# Altium footprint library My.PcbLib: 39 footprints (part 2 of 3)
Each footprint in its own frame and in the unit in brackets; x right, y up, seen from the top. Pads: shape width x height; smd on the part's side, far side on the other; paste and mask are expansions set on the pad; w line width, h text height; cw(c..) or ccw(c..) is an arc to the next point about the centre after c.
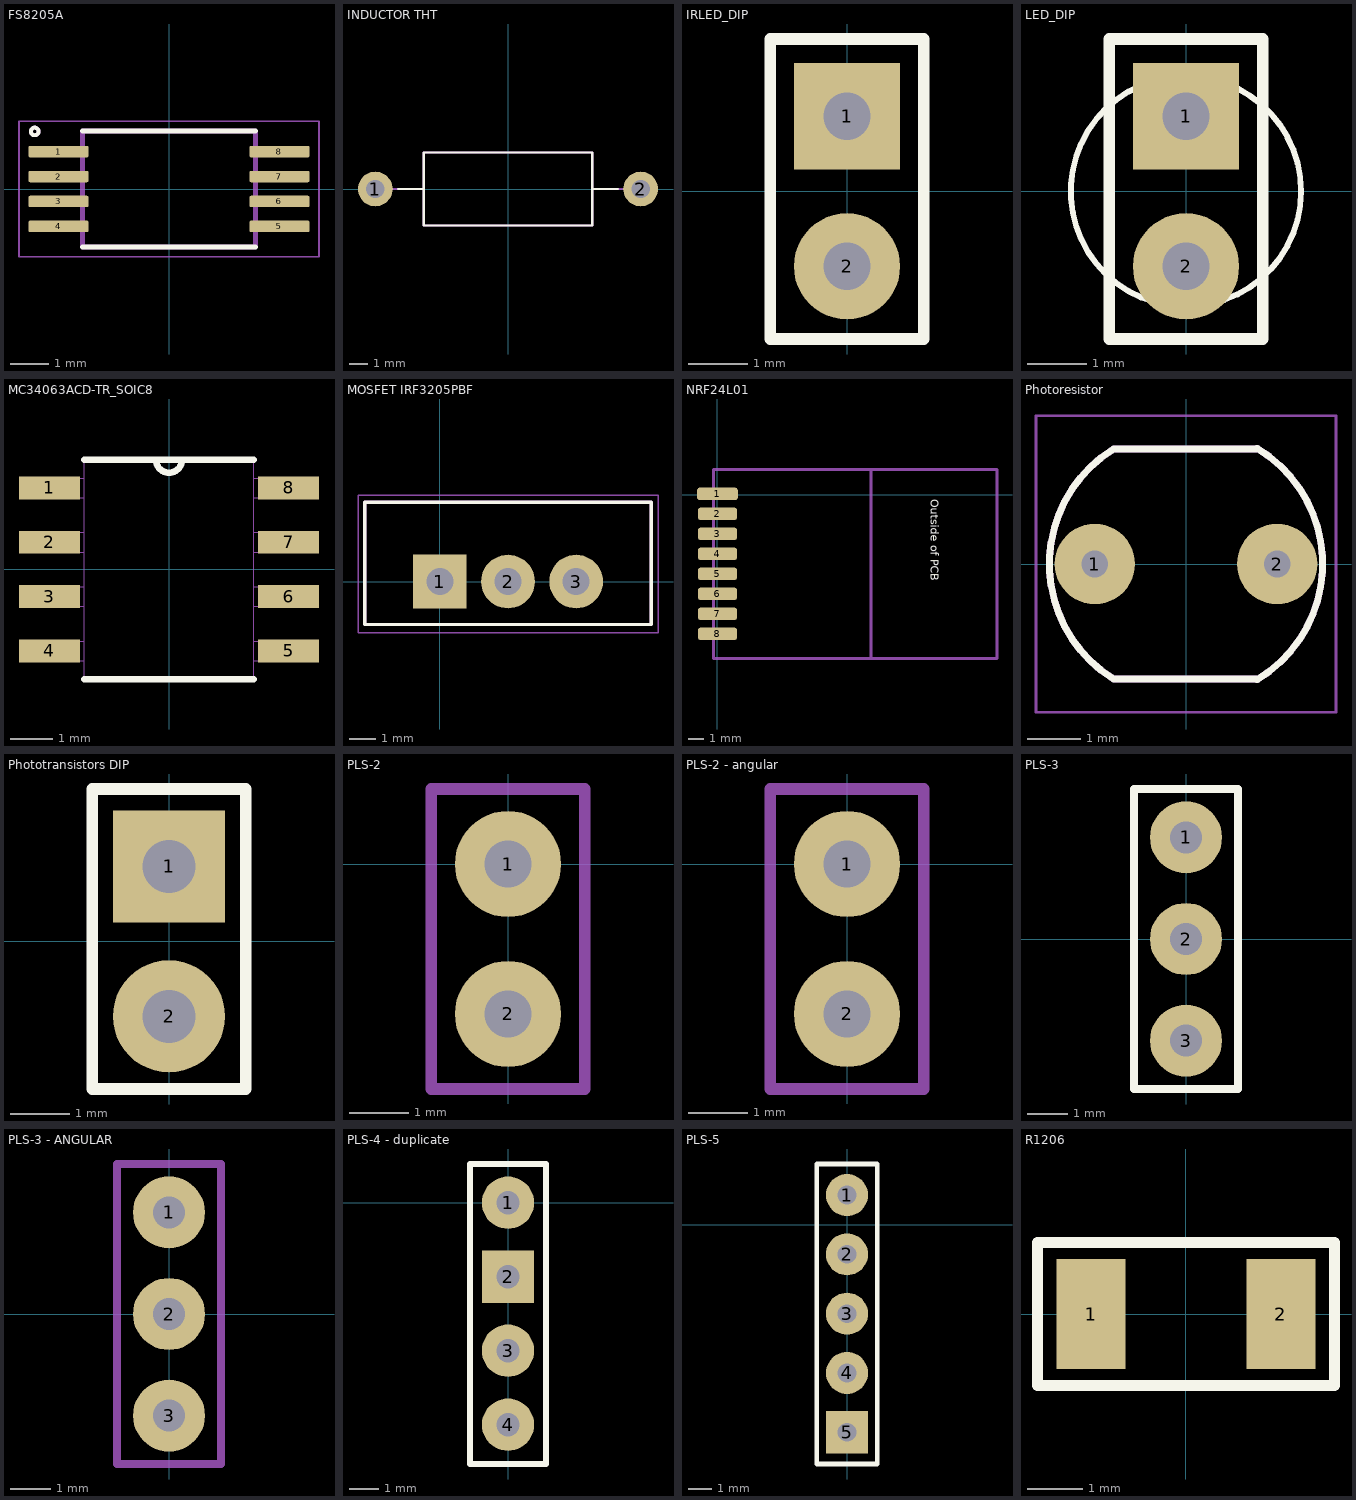
[diagram p1: the footprints below, top view; thin cyan lines are the x and y axes]

## FS8205A [mm]
height 1.2
pads (8):
  rrect25% 1.56x0.3 smd: 1(-2.88,0.975) 2(-2.88,0.325) 3(-2.88,-0.325) 4(-2.88,-0.975) 5(2.88,-0.975) 6(2.88,-0.325) 7(2.88,0.325) 8(2.88,0.975)
Top Overlay:
  circle w0.1: c-3.5,1.5 r0.1
  lines w0.127: -2.25,-1.515 2.25,-1.515 ; -2.25,1.515 2.25,1.515
Mechanical 13:
  circle w0.1: c-3.5,1.5 r0.1
  lines w0.127: -2.25,-1.515 -2.25,1.515 2.25,1.515 2.25,-1.515 -2.25,-1.515
Top Courtyard (Mech15):
  lines w0.05: -3.91,-1.765 -3.91,1.765 3.91,1.765 3.91,-1.765 -3.91,-1.765
3D body "step_temp.STEP": height 1.2, standoff 0, extent -3.2,-1.465 3.2,1.465

## INDUCTOR THT [mm]
height 4
pads (2):
  round 1.9 hole 1: 1(-7.25,0) 2(7.25,0)
Top Overlay:
  lines w0.127: -6.005,0 -4.6,0 ; 4.6,0 6.005,0 ; -4.6,-2 -4.6,2 4.6,2 4.6,-2 -4.6,-2
Mechanical 13:
  lines w0.127: -7,0 -4.6,0 ; 4.6,0 7,0 ; -4.6,-2 4.6,-2 4.6,2 -4.6,2 -4.6,-2
3D body "step_temp.STEP": height 6, standoff -19, extent -7.375,-1.95 7.425,2.05

## IRLED_DIP [mm]
pads (2):
  rect 1.8x1.8 hole 0.8: 1(0,1.27)
  round 1.8 hole 0.8: 2(0,-1.27)
Top Overlay:
  lines w0.2: -1.3,-2.5 -1.3,2.58 1.3,2.58 1.3,-2.5 -1.3,-2.5
3D body "PLS-2_(DS1021_CONNFLY).stp": height 8.7, standoff -3, extent -1.24,-2.54 1.3,2.54

## LED_DIP [mm]
pads (2):
  rect 1.8x1.8 hole 0.8: 1(0,1.27)
  round 1.8 hole 0.8: 2(0,-1.27)
Top Overlay:
  circle w0.1: c0,0 r1.95
  lines w0.2: -1.3,-2.5 1.3,-2.5 1.3,2.58 -1.3,2.58 -1.3,-2.5

## MC34063ACD-TR_SOIC8 [mil]
pads (8):
  rect 56x21 smd: 1(-110,75) 2(-110,25) 3(-110,-25) 4(-110,-75) 5(110,-75) 6(110,-25) 7(110,25) 8(110,75)
Top Overlay:
  lines w6: -78,-101 78,-101 ; -78,101 -12,101 ; 78,101 12,101 ; -12,101 ccw(c0,101) 12,101 ; -12,101 12,101
Mechanical 13:
  lines w0: -12,101 ccw(c0,101) 12,101 ; -12,101 -78,101 -78,-101 78,-101 78,101 12,101 ; -12,101 12,101 ; -124,-84 -78,-84 -78,-66 -124,-66 -124,-84 ; -124,-34 -78,-34 -78,-16 -124,-16 -124,-34 ; -124,16 -78,16 -78,34 -124,34 -124,16 ; -124,66 -78,66 -78,84 -124,84 -124,66 ; 78,-84 124,-84 124,-66 78,-66 78,-84 ; 78,-34 124,-34 124,-16 78,-16 78,-34 ; 78,16 124,16 124,34 78,34 78,16 ; 78,66 124,66 124,84 78,84 78,66
3D body "step_temp.STEP": height 68.9, standoff 0, extent -118.11,-96.46 118.11,96.46

## MOSFET IRF3205PBF [mm]
pads (3):
  rect 2x2 hole 1: 1(0,0)
  round 2 hole 1: 2(2.54,0) 3(5.08,0)
Top Overlay:
  lines w0.127: -2.8,-1.6 -2.8,2.325 -2.8,2.96 7.88,2.96 7.88,2.325 7.88,-1.6 -2.8,-1.6
Mechanical 13:
  lines w0.127: -2.8,-1.6 -2.8,2.325 -2.8,2.96 7.88,2.96 7.88,2.325 7.88,-1.6 -2.8,-1.6
Top Courtyard (Mech15):
  lines w0.05: -3.05,-1.9 -3.05,3.21 8.13,3.21 8.13,-1.9 -3.05,-1.9
3D body "step_temp.STEP": height 20.57, standoff -10.67, extent -2.54,-1.397 7.62,2.794

## NRF24L01 [mm]
pads (8):
  rrect50% 2.6x0.8 smd: 1(0,0.05)
  rrect50% 2.5x0.8 smd: 2(0,-1.22) 3(0,-2.49) 4(0,-3.76) 5(0,-5.03) 6(0,-6.3) 7(0,-7.57) 8(0,-8.84)
Top Overlay:
  text "Outside of PCB" at 13.55,-0.275 h0.5
Top Courtyard:
  lines w0.2: 9.75,-10.4 9.75,1.6 ; -0.25,-10.4 -0.25,1.6 17.75,1.6 17.75,-10.4 -0.25,-10.4
3D body "NRF24L01.stp": height 1.87, standoff -0.01, extent -0.25,-10.4 17.75,1.6

## Photoresistor [mm]
height 2.38
pads (2):
  round 1.5 hole 0.5: 1(-1.7,0) 2(1.7,0)
Top Overlay:
  lines w0.127: -1.364,-2.133 cw(c-0.031,0) -1.364,2.133 ; -1.345,-2.145 1.345,-2.145 ; -1.345,2.145 1.345,2.145 ; 1.326,-2.156 ccw(c0.031,0) 1.326,2.156
Mechanical 13:
  lines w0.127: -1.364,-2.133 cw(c-0.031,0) -1.364,2.133 ; -1.345,-2.145 1.345,-2.145 ; -1.345,2.145 1.345,2.145 ; 1.326,-2.156 ccw(c0.031,0) 1.326,2.156
Top Courtyard (Mech15):
  lines w0.05: -2.796,-2.766 2.796,-2.766 2.796,2.766 -2.796,2.766 -2.796,-2.766
3D body "step_temp.STEP": height 2.39, standoff -25.98, extent -2.54,-2.146 2.54,2.146

## Phototransistors DIP [mm]
height 7.3
pads (2):
  rect 1.9x1.9 hole 0.9: 1(0,1.27)
  round 1.9 hole 0.9: 2(0,-1.27)
Top Overlay:
  lines w0.2: -1.3,-2.5 1.3,-2.5 1.3,2.58 -1.3,2.58 -1.3,-2.5

## PLS-2 [mm] "Штыри однорядные 1x2 конт. шаг 2.54 мм, вертик. на плату"
pads (2):
  round 1.8 hole 0.8: 1(0,0) 2(0,-2.54)
Top Courtyard:
  lines w0.2: -1.3,-3.81 -1.3,1.27 1.3,1.27 1.3,-3.81 -1.3,-3.81
3D body "PLS-2_(DS1021_CONNFLY).stp": height 8.7, standoff -3, extent -1.24,-3.81 1.3,1.27

## PLS-2 - angular [mm] "Штыри однорядные 1x2 конт. шаг 2.54 мм, вертик. на плату"
pads (2):
  round 1.8 hole 0.8: 1(0,0) 2(0,-2.54)
Top Courtyard:
  lines w0.2: -1.3,-3.81 -1.3,1.27 1.3,1.27 1.3,-3.81 -1.3,-3.81
3D body "PLS-2RD_(DS1022_CONNFLY).stp": height 3.54, standoff -2, extent -0.32,-3.81 10.04,1.27

## PLS-3 [mm] "Штыри однорядные 1x4 конт. шаг 2.54 мм, вертик. на плату"
pads (3):
  round 1.8 hole 0.8: 1(0,2.54) 2(0,0) 3(0,-2.54)
Top Overlay:
  lines w0.2: -1.3,-3.75 1.3,-3.75 1.3,3.75 -1.3,3.75 -1.3,-3.75
3D body "PLS-3_(DS1021_CONNFLY).stp": height 8.7, standoff -3, extent -1.27,-3.81 1.27,3.81

## PLS-3 - ANGULAR [mm] "Штыри однорядные 1x4 конт. шаг 2.54 мм, вертик. на плату"
pads (3):
  round 1.8 hole 0.8: 1(0,2.54) 2(0,0) 3(0,-2.54)
Top Courtyard:
  lines w0.2: -1.3,-3.75 1.3,-3.75 1.3,3.75 -1.3,3.75 -1.3,-3.75

## PLS-4 - duplicate [mm] "Штыри однорядные 1x4 конт. шаг 2.54 мм, вертик. на плату"
pads (4):
  round 1.8 hole 0.8: 1(0,0) 3(0,-5.08) 4(0,-7.62)
  rect 1.8x1.8 hole 0.8: 2(0,-2.54)
Top Overlay:
  lines w0.2: -1.3,-8.97 -1.3,1.33 1.3,1.33 1.3,-8.97 -1.3,-8.97
3D body "PLS-2_(DS1021_CONNFLY).stp": height 8.7, standoff -3, extent -1.24,-8.89 1.3,-3.81
3D body "PLS-2_(DS1021_CONNFLY).stp": height 8.7, standoff -3, extent -1.24,-3.81 1.3,1.27

## PLS-5 [mm] "Штыри однорядные 1x4 конт. шаг 2.54 мм, вертик. на плату"
pads (5):
  round 1.8 hole 0.8: 1(0,1.27) 2(0,-1.27) 3(0,-3.81) 4(0,-6.35)
  rect 1.8x1.8 hole 0.8: 5(0,-8.89)
Top Overlay:
  lines w0.2: -1.3,-10.25 1.3,-10.25 1.3,2.6 -1.3,2.6 -1.3,-10.25

## R1206 [mm]
pads (2):
  rect 1.25x2 smd: 1(-1.725,0) 2(1.725,0)
Top Overlay:
  lines w0.2: -2.7,-1.3 2.7,-1.3 2.7,1.3 -2.7,1.3 -2.7,-1.3
3D body "RESC3115X07M.step": height 0.7, standoff 0, extent -1.625,-0.825 1.625,0.825